# Altium footprint library PcbLib1.PcbLib: 31 footprints (part 1 of 2)
Each footprint in its own frame and in the unit in brackets; x right, y up, seen from the top. Pads: shape width x height; smd on the part's side, far side on the other; paste and mask are expansions set on the pad; w line width, h text height; cw(c..) or ccw(c..) is an arc to the next point about the centre after c.
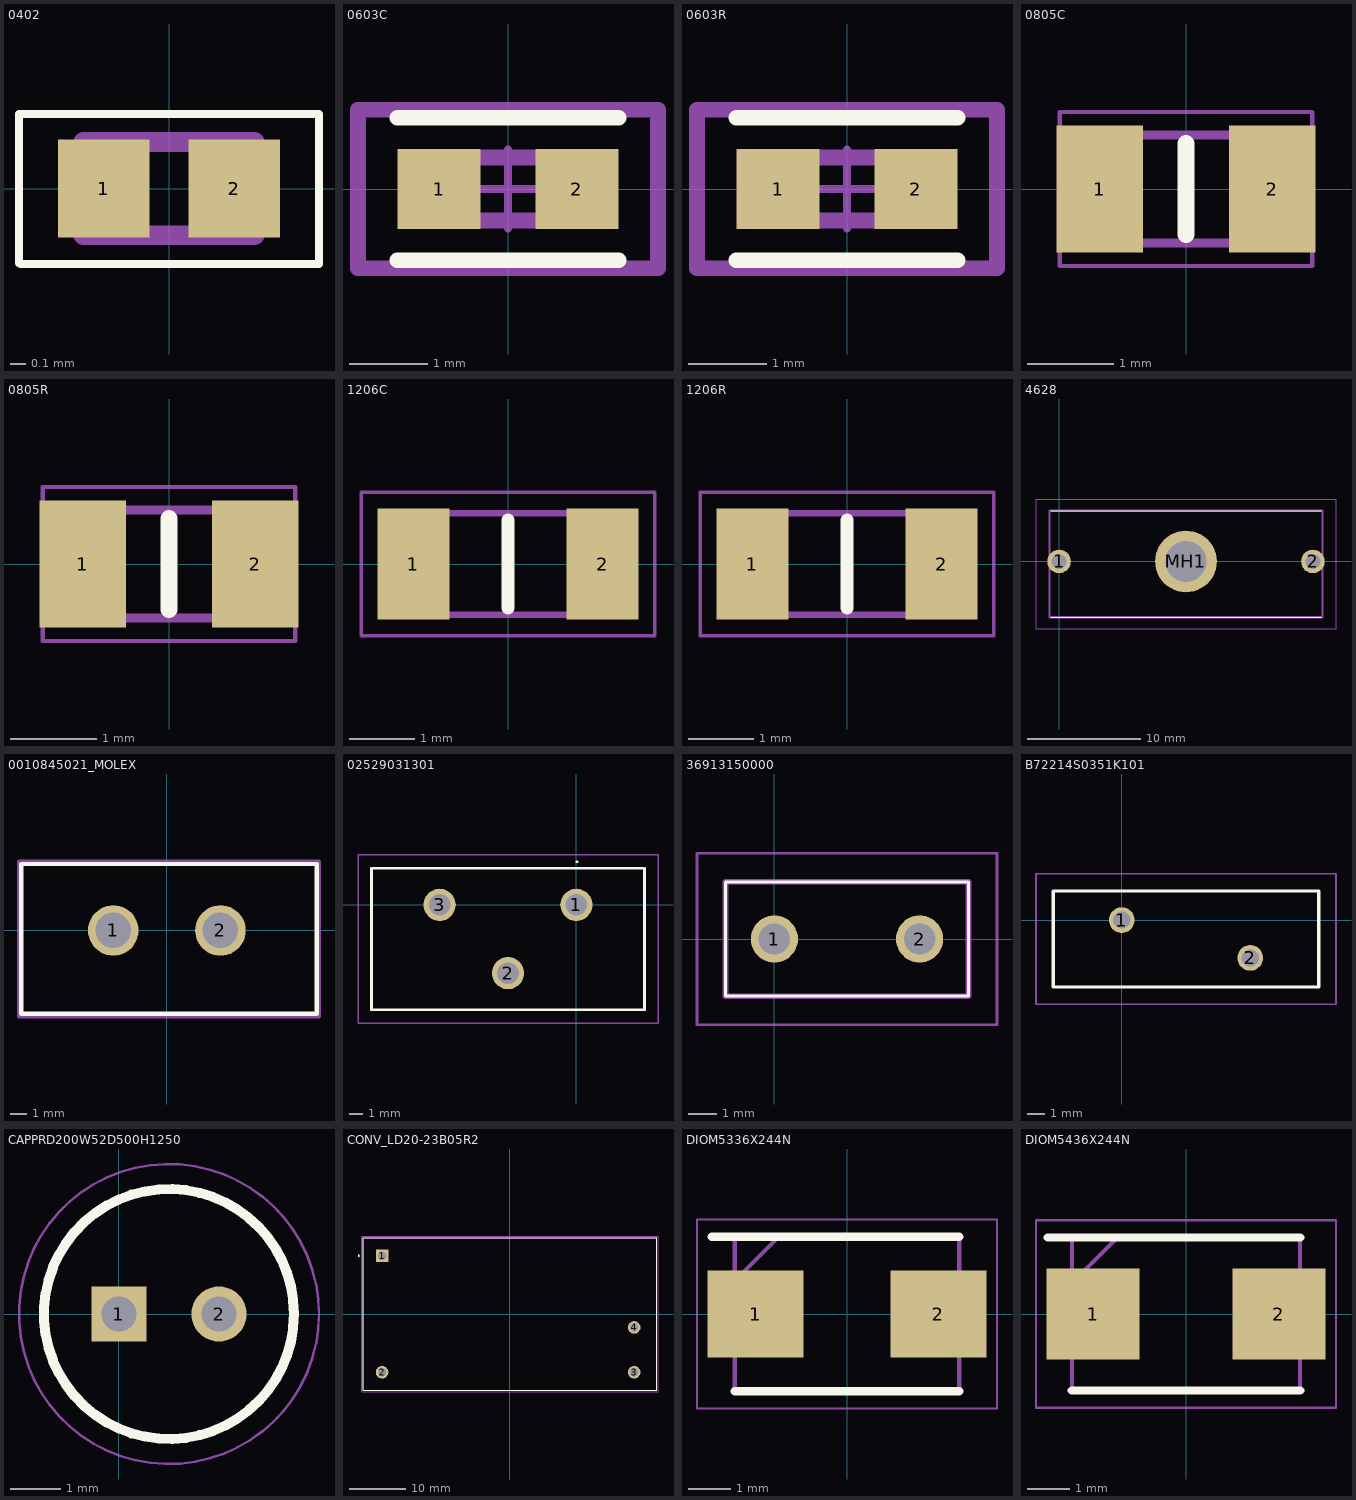
[diagram p0: the footprints below, top view; thin cyan lines are the x and y axes]

## 0402 [mm]
pads (2):
  rect 0.59x0.63 smd: 1(-0.42,0) 2(0.42,0)
Top Overlay:
  lines w0.05: -0.965,-0.48 -0.965,0.48 0.965,0.48 0.965,-0.485 0.492,-0.485 0.251,-0.485 -0.231,-0.485 -0.473,-0.485 -0.955,-0.485
Mechanical 13:
  lines w0.127: -0.55,-0.3 0.55,-0.3 0.55,0.3 -0.55,0.3 -0.55,-0.3

## 0603C [mm]
pads (2):
  rect 1.059x1.012 smd paste+0 mask+0: 1(-0.877,0) 2(0.877,0)
Top Overlay:
  lines w0.2: -1.406,-0.906 1.406,-0.906 ; -1.406,0.906 1.406,0.906
Mechanical 10:
  lines w0.2: -1.906,-1.006 1.906,-1.006 1.906,1.006 -1.906,1.006 -1.906,-1.006
  text ".Designator" at 0,0 h1
Mechanical 12:
  lines w0.2: -0.8,-0.4 0.8,-0.4 0.8,0.4 -0.8,0.4 -0.8,-0.4
Mechanical 15:
  lines w0.1: -0.5,0 0.5,0 ; 0,-0.5 0,0.5
  lines w0.2: -1.906,-1.006 1.906,-1.006 1.906,1.006 -1.906,1.006 -1.906,-1.006
3D body "C0603_060.step": height 0.6, standoff 0, extent -0.673,-0.4 0.927,0.4

## 0603R [mm]
pads (2):
  rect 1.059x1.012 smd paste+0 mask+0: 1(-0.877,0) 2(0.877,0)
Top Overlay:
  lines w0.2: -1.406,-0.906 1.406,-0.906 ; -1.406,0.906 1.406,0.906
Mechanical 10:
  lines w0.2: -1.906,-1.006 -1.906,1.006 1.906,1.006 1.906,-1.006 -1.906,-1.006
  text ".Designator" at 0,0 h1
Mechanical 12:
  lines w0.2: -0.8,-0.4 -0.8,0.4 0.8,0.4 0.8,-0.4 -0.8,-0.4
Mechanical 15:
  lines w0.1: -0.5,0 0.5,0 ; 0,-0.5 0,0.5
  lines w0.2: -1.906,-1.006 -1.906,1.006 1.906,1.006 1.906,-1.006 -1.906,-1.006
3D body "Res_Yageo_RC0603FR-070RL_eec.STEP": height 0.25, standoff 0, extent -1.906,-1.006 1.906,1.006

## 0805C [mm]
pads (2):
  rect 1x1.47 smd: 1(-1,0) 2(1,0)
Top Overlay:
  lines w0.2: 0,-0.525 0,0.525
Mechanical 15:
  lines w0.1: -1,-0.625 -1,0.625 1,0.625 1,-0.625 -1,-0.625
Mechanical 20:
  lines w0.05: -1.46,-0.89 -1.46,0.89 1.46,0.89 1.46,-0.89 -1.46,-0.89
3D body "CircuitWorks-CAPACITOR 0805.STEP": height 0.73, standoff -0.03, extent -1.01,-0.65 0.99,0.66

## 0805R [mm]
pads (2):
  rect 1x1.47 smd: 1(-1,0) 2(1,0)
Top Overlay:
  lines w0.2: 0,-0.525 0,0.525
Mechanical 15:
  lines w0.1: -1,-0.625 -1,0.625 1,0.625 1,-0.625 -1,-0.625
Mechanical 20:
  lines w0.05: -1.46,-0.89 -1.46,0.89 1.46,0.89 1.46,-0.89 -1.46,-0.89
3D body "RES0805.STEP": height 0.6, standoff 0, extent -1.016,-0.635 0.984,0.615

## 1206C [mm]
pads (2):
  rect 1.1x1.7 smd: 1(-1.45,0) 2(1.45,0)
Top Overlay:
  lines w0.2: 0,-0.675 0,0.675
Mechanical 13:
  lines w0.1: -1.55,-0.775 -1.55,0.775 1.55,0.775 1.55,-0.775 -1.55,-0.775
Mechanical 15:
  lines w0.05: -2.25,-1.1 -2.25,1.1 2.25,1.1 2.25,-1.1 -2.25,-1.1
3D body "Ceramic_Capacitor_1206_h32mil.step": height 0.81, standoff 0.01, extent -1.473,-0.8 1.727,0.8

## 1206R [mm]
pads (2):
  rect 1.1x1.7 smd: 1(-1.45,0) 2(1.45,0)
Top Overlay:
  lines w0.2: 0,-0.675 0,0.675
Mechanical 13:
  lines w0.1: -1.55,-0.775 -1.55,0.775 1.55,0.775 1.55,-0.775 -1.55,-0.775
Mechanical 15:
  lines w0.05: -2.25,-1.1 -2.25,1.1 2.25,1.1 2.25,-1.1 -2.25,-1.1
3D body "RES1206.STEP": height 0.6, standoff 0, extent -1.6,-0.762 1.6,0.838

## 4628 [mm]
pads (3):
  round 2.085 hole 1.32: 1(0,0) 2(22.5,0)
  round 5.475 hole 3.65: MH1(11.25,0)
Top Overlay:
  lines w0.1: -0.75,-4.95 23.25,-4.95 ; -0.75,4.495 23.25,4.495
Mechanical 13:
  lines w0.2: -0.855,-4.95 -0.855,4.495 23.355,4.495 23.355,-4.95 -0.855,-4.95
Mechanical 15:
  lines w0.1: -2.042,-5.95 -2.042,5.495 24.543,5.495 24.543,-5.95 -2.042,-5.95
3D body "4628.stp": height 11.95, standoff -4, extent -0.855,-4.495 23.355,4.495

## 0010845021_MOLEX [mm]
pads (2):
  round 3 hole 2.1 mask+0: 1(-3.175,0) 2(3.175,0)
Top Overlay:
  lines w0.254: -8.636,-4.932 -8.625,-4.942 8.89,-4.942 8.89,3.937 -8.636,3.937 -8.636,-4.932
Mechanical 15:
  lines w0.254: -8.763,-5.08 9.017,-5.08 9.017,4.064 -8.763,4.064 -8.763,-5.08
3D body "010845021.stp": height 14.98, standoff -3.94, extent -8.636,-4.953 8.89,3.937

## 02529031301 [mm]
pads (3):
  round 2.4 hole 1.6: 1(0,0) 2(-5.08,-5.08) 3(-10.16,0)
Top Overlay:
  lines w0.1: 0,3.2 cw(c0.05,3.2) 0.1,3.2 cw(c0.05,3.2) 0,3.2
  lines w0.2: -15.225,-7.79 -15.225,2.71 5.065,2.71 5.065,-7.79 -15.225,-7.79
Mechanical 13:
  lines w0.1: -15.225,-7.79 -15.225,2.71 5.065,2.71 5.065,-7.79 -15.225,-7.79
Mechanical 15:
  lines w0.1: -16.225,-8.79 -16.225,3.71 6.065,3.71 6.065,-8.79 -16.225,-8.79
3D body "02529031301.stp": height 12.11, standoff -3.54, extent -15.225,-7.79 5.065,2.71

## 36913150000 [mm]
pads (2):
  round 1.65 hole 1.1: 1(0,0) 2(5.08,0)
Top Overlay:
  lines w0.1: -1.71,-2 -1.71,2 6.79,2 6.79,-2 -1.71,-2
Mechanical 13:
  lines w0.2: -1.71,-2 -1.71,2 6.79,2 6.79,-2 -1.71,-2
Mechanical 15:
  lines w0.1: -2.71,-3 -2.71,3 7.79,3 7.79,-3 -2.71,-3
3D body "36913150000.stp": height 8.1, standoff -5, extent -1.71,-2 6.79,2

## B72214S0351K101 [mm]
pads (2):
  round 1.5 hole 1: 1(0,0) 2(7.5,-2.2)
Top Overlay:
  lines w0.2: -4,-3.9 11.5,-3.9 11.5,1.7 -4,1.7 -4,-3.9
Mechanical 13:
  lines w0.1: -4,-3.9 11.5,-3.9 11.5,1.7 -4,1.7 -4,-3.9
Mechanical 15:
  lines w0.1: -5,-4.9 12.5,-4.9 12.5,2.7 -5,2.7 -5,-4.9
3D body "B72214S0351K101.stp": height 17.5, standoff -22.18, extent -3.812,-3.183 11.304,0.939

## CAPPRD200W52D500H1250 [mm]
pads (2):
  rect 1.1x1.1 hole 0.7: 1(0,0)
  round 1.1 hole 0.7: 2(2,0)
Top Overlay:
  circle w0.2: c1,0 r2.5
Mechanical 13:
  circle w0.1: c1,0 r2.5
Mechanical 15:
  circle w0.05: c1,0 r3
3D body "860010372001.stp": height 12.5, standoff -10, extent -1.738,-2.747 3.75,2.747

## CONV_LD20-23B05R2 [mm]
pads (4):
  rect 2.25x2.25 hole 1.5: 1(-22.8,10.4)
  round 2.25 hole 1.5: 2(-22.8,-10.4) 3(22.2,-10.4) 4(22.2,-2.4)
Top Overlay:
  circle w0.2: c-27,10.4 r0.1
  lines w0.127: -26.2,-13.6 26.2,-13.6 26.2,13.6 -26.2,13.6 -26.2,-13.6
Mechanical 13:
  circle w0.2: c-27,10.4 r0.1
  lines w0.127: -26.2,-13.6 -26.2,13.6 26.2,13.6 26.2,-13.6 -26.2,-13.6
Mechanical 15:
  lines w0.05: -26.45,-13.85 26.45,-13.85 26.45,13.85 -26.45,13.85 -26.45,-13.85
3D body "step_temp.STEP": height 24, standoff -4.1, extent -26.2,-13.6 26.2,13.6

## DIOM5336X244N [mm]
pads (2):
  rect 2.25x2.05 smd: 1(-2.15,0) 2(2.15,0)
Top Overlay:
  lines w0.2: -3.175,1.81 2.635,1.81 ; -2.635,-1.81 2.635,-1.81
Mechanical 13:
  lines w0.1: -2.635,0.785 -1.61,1.81 ; -2.635,-1.81 -2.635,1.81 2.635,1.81 2.635,-1.81 -2.635,-1.81
Mechanical 15:
  lines w0.05: -3.525,-2.22 -3.525,2.22 3.525,2.22 3.525,-2.22 -3.525,-2.22
3D body "SMBJ7.0A.stp": height 2.44, standoff 0, extent -2.635,-1.81 2.635,1.81

## DIOM5436X244N [mm]
pads (2):
  rect 2.2x2.15 smd: 1(-2.2,0) 2(2.2,0)
Top Overlay:
  lines w0.2: -3.275,1.81 2.7,1.81 ; -2.7,-1.81 2.7,-1.81
Mechanical 13:
  lines w0.1: -2.7,0.735 -1.625,1.81 ; -2.7,-1.81 -2.7,1.81 2.7,1.81 2.7,-1.81 -2.7,-1.81
Mechanical 15:
  lines w0.05: -3.55,-2.22 -3.55,2.22 3.55,2.22 3.55,-2.22 -3.55,-2.22
3D body "SMBJ20A-E3_52.stp": height 2.44, standoff 0, extent -2.7,-1.81 2.7,1.81